# EAGLE library part FM20L08 (library Ramtron)
FM20L08 128k x 8 NVRAM 3V (Jedec) TSSOP
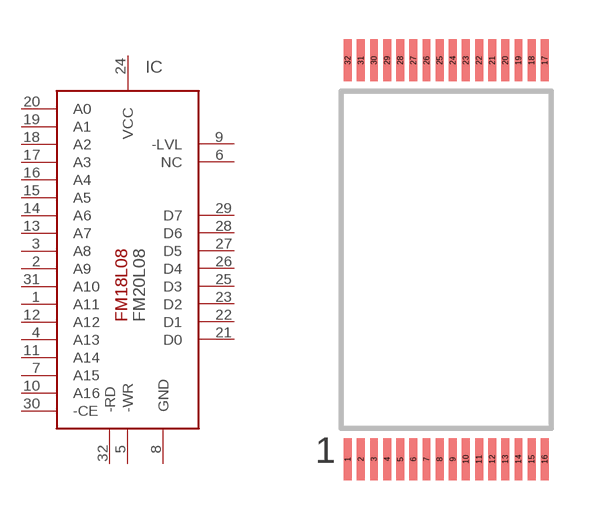
[diagram p1: symbol with the pads of TSOP8X16; footprint TSOP8X16]

Designator prefix IC

## FM20L08-TG  [TSOP8X16]
1  A11  in
2  A9  in
3  A8  in
4  A13  pas
5  -WR  in
6  NC
7  A15  pas
8  GND  pwr
9  -LVL
10  A16  pas
11  A14  pas
12  A12  in
13  A7  in
14  A6  in
15  A5  in
16  A4  in
17  A3  in
18  A2  in
19  A1  in
20  A0  in
21  D0
22  D1
23  D2
24  VCC  pwr
25  D3
26  D4
27  D5
28  D6
29  D7
30  -CE  in
31  A10  in
32  -RD  in

## Footprint TSOP8X16 (pad centres in mm)
TSOP32 thin small outline package
smd 0.3 x 1.6: 1 -3.75,-7.6; 2 -3.25,-7.6; 3 -2.75,-7.6; 4 -2.25,-7.6; 5 -1.75,-7.6; 6 -1.25,-7.6; 7 -0.75,-7.6; 8 -0.25,-7.6; 9 0.25,-7.6; 10 0.75,-7.6; 11 1.25,-7.6; 12 1.75,-7.6; 13 2.25,-7.6; 14 2.75,-7.6; 15 3.25,-7.6; 16 3.75,-7.6; 17 3.75,7.6; 18 3.25,7.6; 19 2.75,7.6; 20 2.25,7.6; 21 1.75,7.6; 22 1.25,7.6; 23 0.75,7.6; 24 0.25,7.6; 25 -0.25,7.6; 26 -0.75,7.6; 27 -1.25,7.6; 28 -1.75,7.6; 29 -2.25,7.6; 30 -2.75,7.6; 31 -3.25,7.6; 32 -3.75,7.6